# Altium footprint library aiskylab-04Dio-1K.PcbLib: 25 footprints (part 2 of 2)
Each footprint in its own frame and in the unit in brackets; x right, y up, seen from the top. Pads: shape width x height; smd on the part's side, far side on the other; paste and mask are expansions set on the pad; w line width, h text height; cw(c..) or ccw(c..) is an arc to the next point about the centre after c.
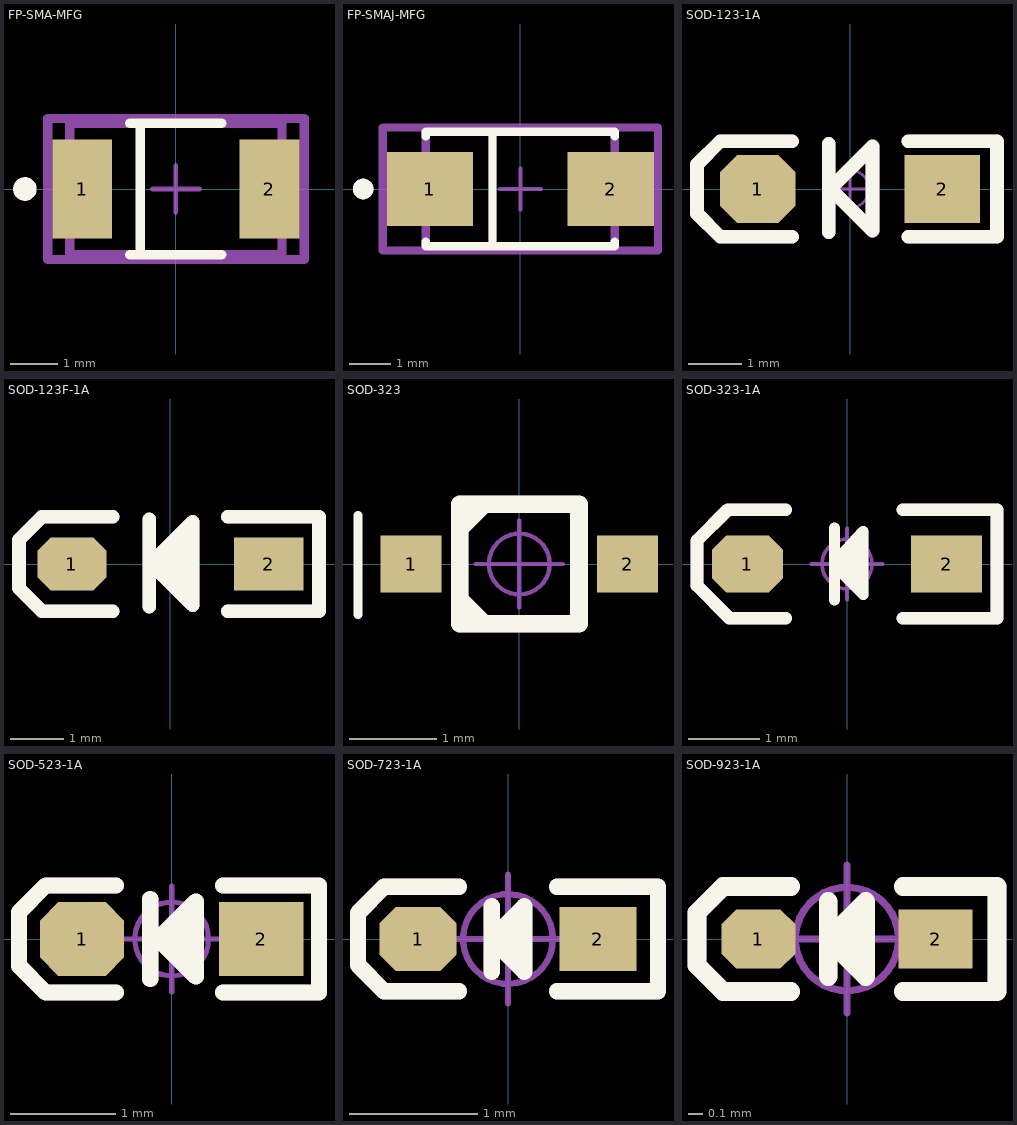
[diagram p1: the footprints below, top view; thin cyan lines are the x and y axes]

## FP-SMA-MFG [mm]
pads (2):
  rect 1.27x2.1 smd paste+0 mask+0: 1(-1.985,0) 2(1.985,0)
Top Overlay:
  circle w0.25: c-3.2,0 r0.125
  lines w0.2: -0.975,-1.395 0.975,-1.395 ; -0.975,1.395 0.975,1.395 ; -0.75,-1.3 -0.75,1.3
Top Designator:
  text ".Designator" at 0,-0.001 h1
Top Assembly:
  lines w0.2: -2.72,-1.495 2.72,-1.495 2.72,1.495 -2.72,1.495 -2.72,-1.495 ; -2.25,-1.395 2.25,-1.395 2.25,1.395 -2.25,1.395 -2.25,-1.395
Top Component Center:
  lines w0.1: -0.5,0 0.5,0 ; 0,-0.5 0,0.5
Top Component Outline:
  lines w0.2: -2.72,-1.495 2.72,-1.495 2.72,1.495 -2.72,1.495 -2.72,-1.495
3D body "Diode_Bourns_Inc_SMAJ6_0A_eec.STEP": height 2.62, standoff 0, extent -2.605,-1.302 2.605,1.303

## FP-SMAJ-MFG [mm]
pads (2):
  rect 2.1x1.8 smd paste+0 mask+0: 1(-2.2,0) 2(2.2,0)
Top Overlay:
  circle w0.25: c-3.825,0 r0.125
  lines w0.2: -2.3,-1.275 -2.3,-1.395 2.3,-1.395 2.3,-1.275 ; -2.3,1.275 -2.3,1.395 2.3,1.395 2.3,1.275 ; -0.675,-1.32 -0.675,1.32
Top Designator:
  lines w0.2: -3.35,-1.495 3.35,-1.495 3.35,1.495 -3.35,1.495 -3.35,-1.495
  text ".Designator" at 0,-0.001 h1
Top Assembly:
  circle w0.25: c-3.825,0 r0.125
  lines w0.2: -2.3,-1.275 -2.3,-1.395 2.3,-1.395 2.3,-1.275 ; -2.3,1.275 -2.3,1.395 2.3,1.395 2.3,1.275 ; -0.675,-1.32 -0.675,1.32
Top Component Center:
  lines w0.1: -0.5,0 0.5,0 ; 0,-0.5 0,0.5
Top Component Outline:
  lines w0.2: -3.35,-1.495 3.35,-1.495 3.35,1.495 -3.35,1.495 -3.35,-1.495
Top 3D Body:
  lines w0.2: -2.3,-1.395 2.3,-1.395 2.3,1.395 -2.3,1.395 -2.3,-1.395
3D body "Diode_Littelfuse_Inc_SMAJ26A_eec.STEP": height 2.29, standoff 0, extent -2.602,-1.415 2.553,1.33

## SOD-123-1A [mil] "2.7x1.6X1.1mm（长宽高，不包括引脚）"
pads (2):
  oct 55x50 smd: 1(-67.5,0)
  rect 55x50 smd: 2(67.5,0)
Top Overlay:
  lines w10: -42.5,-35 -95,-35 -112,-18 -112,18 -95,35 -42.5,35 ; -15.6,-31.7 -15.6,33.1 ; -15.6,1.5 16.4,-30.5 16.4,31.2 -14,0.8 ; 42.5,-35 107.5,-35 107.5,35 42.5,35
Top Assembly:
  lines w10: -42.5,-35 -95,-35 -112,-18 -112,18 -95,35 -42.5,35 ; -15.6,-31.7 -15.6,33.1 ; -15.6,1.5 16.4,-30.5 16.4,31.2 -14,0.8 ; 42.5,-35 107.5,-35 107.5,35 42.5,35
Top Component Center:
  circle w1.97: c0,0 r13.78
  lines w1.97: -19.68,0 19.68,0 ; 0,-19.68 0,19.68
3D body "SOD-123.STEP": height 48.03, standoff 0, extent -72.83,-31.5 72.84,31.5

## SOD-123F-1A [mm] "2.7x1.6X1.1mm（长宽高，不包括引脚）"
pads (2):
  oct 1.3x1 smd: 1(-1.85,0)
  rect 1.3x1 smd: 2(1.85,0)
Top Overlay:
  lines w0.254: -1.079,-0.889 -2.413,-0.889 -2.845,-0.457 -2.845,0.457 -2.413,0.889 -1.079,0.889 ; -0.396,-0.805 -0.396,0.841 ; -0.396,0.038 0.417,-0.775 0.417,0.792 -0.356,0.02 ; 0,0.254 0,0 0,-0.254 -0.254,0 0.229,0.432 0.254,-0.559 ; 1.079,-0.889 2.794,-0.889 2.794,0.889 1.079,0.889
Top Assembly:
  lines w0.254: -1.079,-0.889 -2.413,-0.889 -2.845,-0.457 -2.845,0.457 -2.413,0.889 -1.079,0.889 ; -0.396,-0.805 -0.396,0.841 ; -0.396,0.038 0.417,-0.775 0.417,0.792 -0.356,0.02 ; 0,0.254 0,0 0,-0.254 -0.254,0 0.229,0.432 0.254,-0.559 ; 1.079,-0.889 2.794,-0.889 2.794,0.889 1.079,0.889
Top Component Center:
  circle w0.05: c0,0 r0.35
  lines w0.05: -0.5,0 0.5,0 ; 0,-0.5 0,0.5
3D body "SOD-123F.STEP": height 1.15, standoff 0.04, extent -1.9,-0.8 1.9,0.8

## SOD-323 [mm]
height 1.35
pads (2):
  rect 0.7x0.65 smd: 1(-1.245,0) 2(1.245,0)
Top Overlay:
  lines w0.1: -1.854,-0.584 -1.854,0.559
  lines w0.203: -0.686,-0.406 -0.406,-0.686 ; -0.686,0.406 -0.406,0.686 ; -0.686,-0.686 0.686,-0.686 0.686,0.686 -0.686,0.686 -0.686,-0.686
Top Designator:
  text ".Designator" at -7.618,-0.508 h1.52
Top Assembly:
  lines w0.203: -0.686,-0.406 -0.406,-0.686 ; -0.686,0.406 -0.406,0.686 ; -0.686,-0.686 0.686,-0.686 0.686,0.686 -0.686,0.686 -0.686,-0.686
Top Component Center:
  circle w0.05: c0,0 r0.35
  lines w0.05: -0.5,0 0.5,0 ; 0,-0.5 0,0.5
Top Component Outline:
  lines w0.203: -0.686,-0.406 -0.406,-0.686 ; -0.686,0.406 -0.406,0.686 ; -0.686,-0.686 0.686,-0.686 0.686,0.686 -0.686,0.686 -0.686,-0.686
3D body "0_65-0_4.stp": height 0.01, standoff 0, extent -1.575,-0.325 -1.175,0.325
3D body "0_65-0_4.stp": height 0.01, standoff 0, extent 1.175,-0.325 1.575,0.325
3D body "sod-323.stp": height 1.11, standoff -0.07, extent -1.375,-0.675 1.375,0.675

## SOD-323-1A [mm] "1.8x1.3X0.9mm（长宽高，不包括引脚）"
pads (2):
  oct 1x0.8 smd: 1(-1.4,0)
  rect 1x0.8 smd: 2(1.4,0)
Top Overlay:
  lines w0.152: -0.178,-0.508 -0.178,0.508 ; -0.178,-0.025 0.229,-0.432 0.229,0.457 -0.178,0.025
  lines w0.178: -0.864,-0.762 -1.651,-0.762 -2.108,-0.305 -2.108,0.33 -1.676,0.762 -0.864,0.762 ; 0.787,-0.762 2.108,-0.762 2.108,0.762 0.787,0.762
  lines w0.254: 0.025,-0.127 -0.025,0.025 0.152,0.178 0.127,-0.254
Top Assembly:
  lines w0.152: -0.178,-0.508 -0.178,0.508 ; -0.178,-0.025 0.229,-0.432 0.229,0.457 -0.178,0.025
  lines w0.178: -0.864,-0.762 -1.651,-0.762 -2.108,-0.305 -2.108,0.33 -1.676,0.762 -0.864,0.762 ; 0.787,-0.762 2.108,-0.762 2.108,0.762 0.787,0.762
  lines w0.254: 0.025,-0.127 -0.025,0.025 0.152,0.178 0.127,-0.254
Top Component Center:
  circle w0.05: c0,0 r0.35
  lines w0.05: -0.5,0 0.5,0 ; 0,-0.5 0,0.5
3D body "SOD-323.STEP": height 1, standoff 0.04, extent -1.311,-0.669 1.337,0.631

## SOD-523-1A [mm] "1.2x0.8X0.6mm（长宽高，不包括引脚）"
pads (2):
  oct 0.8x0.7 smd: 1(-0.85,0)
  rect 0.8x0.7 smd: 2(0.85,0)
Top Overlay:
  region: 0.178,0.178 0,0.178 0,-0.178 0.178,-0.178
  lines w0.152: -0.528,-0.508 -1.194,-0.508 -1.448,-0.254 -1.448,0.254 -1.194,0.508 -0.528,0.508 ; -0.203,-0.381 -0.203,0.381 ; 0.127,0 -0.127,0 ; 0.488,-0.508 1.397,-0.508 1.397,0.508 0.488,0.508 ; -0.127,0 0.229,0.356 0.229,-0.356 -0.127,0
Top Assembly:
  region: 0.178,0.178 0,0.178 0,-0.178 0.178,-0.178
  lines w0.152: -0.528,-0.508 -1.194,-0.508 -1.448,-0.254 -1.448,0.254 -1.194,0.508 -0.528,0.508 ; -0.203,-0.381 -0.203,0.381 ; 0.127,0 -0.127,0 ; 0.488,-0.508 1.397,-0.508 1.397,0.508 0.488,0.508 ; -0.127,0 0.229,0.356 0.229,-0.356 -0.127,0
Top Component Center:
  circle w0.05: c0,0 r0.35
  lines w0.05: -0.5,0 0.5,0 ; 0,-0.5 0,0.5
3D body "SOD-523.STEP": height 0.65, standoff 0.05, extent -0.8,-0.4 0.8,0.4

## SOD-723-1A [mm] "1x0.6X0.5mm（长宽高，不包括引脚）"
pads (2):
  oct 0.6x0.5 smd: 1(-0.7,0)
  rect 0.6x0.5 smd: 2(0.7,0)
Top Overlay:
  lines w0.127: -0.381,-0.406 -0.965,-0.406 -1.168,-0.203 -1.168,0.203 -0.965,0.406 -0.381,0.406 ; -0.127,-0.254 -0.127,0.254 ; 0,0.127 0,-0.127 0.127,-0.254 ; 0.381,-0.406 1.168,-0.406 1.168,0.406 0.381,0.406 ; 0.127,-0.254 0.127,0.254 -0.127,0 0.127,-0.254
Top Assembly:
  lines w0.127: -0.381,-0.406 -0.965,-0.406 -1.168,-0.203 -1.168,0.203 -0.965,0.406 -0.381,0.406 ; -0.127,-0.254 -0.127,0.254 ; 0,0.127 0,-0.127 0.127,-0.254 ; 0.381,-0.406 1.168,-0.406 1.168,0.406 0.381,0.406 ; 0.127,-0.254 0.127,0.254 -0.127,0 0.127,-0.254
Top Component Center:
  circle w0.05: c0,0 r0.35
  lines w0.05: -0.5,0 0.5,0 ; 0,-0.5 0,0.5
3D body "SOD-723.STEP": height 0.53, standoff 0.03, extent -0.7,-0.3 0.7,0.3

## SOD-923-1A [mm] "0.8x0.6X0.4mm（长宽高，不包括引脚）"
pads (2):
  oct 0.5x0.4 smd: 1(-0.6,0)
  rect 0.5x0.4 smd: 2(0.6,0)
Top Overlay:
  lines w0.127: -0.381,-0.356 -0.838,-0.356 -1.016,-0.178 -1.016,0.178 -0.838,0.356 -0.381,0.356 ; -0.127,-0.254 -0.127,0.254 ; 0,0.127 0,-0.127 0.127,-0.254 ; 0.381,-0.356 1.016,-0.356 1.016,0.356 0.381,0.356 ; 0.127,-0.254 0.127,0.254 -0.127,0 0.127,-0.254
Top Assembly:
  lines w0.127: -0.381,-0.356 -0.838,-0.356 -1.016,-0.178 -1.016,0.178 -0.838,0.356 -0.381,0.356 ; -0.127,-0.254 -0.127,0.254 ; 0,0.127 0,-0.127 0.127,-0.254 ; 0.381,-0.356 1.016,-0.356 1.016,0.356 0.381,0.356 ; 0.127,-0.254 0.127,0.254 -0.127,0 0.127,-0.254
Top Component Center:
  circle w0.05: c0,0 r0.35
  lines w0.05: -0.5,0 0.5,0 ; 0,-0.5 0,0.5
3D body "SOD-923.STEP": height 0.43, standoff 0.03, extent -0.5,-0.3 0.5,0.3